# EAGLE library part MR2A16A (library Freescale-MRAM)
Freescale 4Mbit MRAM
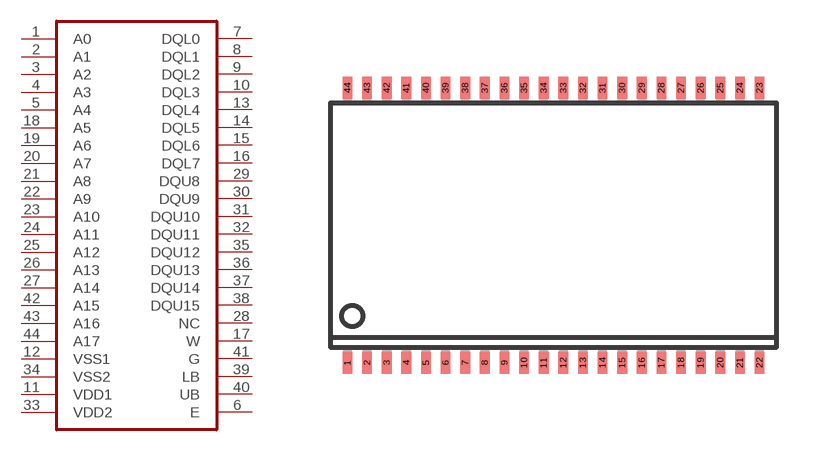
[diagram p1: symbol with the pads of TSOP44-II; footprint TSOP44-II]

Designator prefix -

## MR2A16A  [TSOP44-II]
1  A0
2  A1
3  A2
4  A3
5  A4
6  E
7  DQL0
8  DQL1
9  DQL2
10  DQL3
11  VDD1  pwr
12  VSS1  pwr
13  DQL4
14  DQL5
15  DQL6
16  DQL7
17  W
18  A5
19  A6
20  A7
21  A8
22  A9
23  A10
24  A11
25  A12
26  A13
27  A14
28  NC  nc
29  DQU8
30  DQU9
31  DQU10
32  DQU11
33  VDD2  pwr
34  VSS2  pwr
35  DQU12
36  DQU13
37  DQU14
38  DQU15
39  LB
40  UB
41  G
42  A15
43  A16
44  A17

## Footprint TSOP44-II (pad centres in mm)
44 lead Plastic Thin Small Outline Type II
smd 0.4 x 0.9: 1 -8.4,-5.6; 2 -7.6,-5.6; 3 -6.8,-5.6; 4 -6,-5.6; 5 -5.2,-5.6; 6 -4.4,-5.6; 7 -3.6,-5.6; 8 -2.8,-5.6; 9 -2,-5.6; 10 -1.2,-5.6; 11 -0.4,-5.6; 12 0.4,-5.6; 13 1.2,-5.6; 14 2,-5.6; 15 2.8,-5.6; 16 3.6,-5.6; 17 4.4,-5.6; 18 5.2,-5.6; 19 6,-5.6; 20 6.8,-5.6; 21 7.6,-5.6; 22 8.4,-5.6; 23 8.4,5.6; 24 7.6,5.6; 25 6.8,5.6; 26 6,5.6; 27 5.2,5.6; 28 4.4,5.6; 29 3.6,5.6; 30 2.8,5.6; 31 2,5.6; 32 1.2,5.6; 33 0.4,5.6; 34 -0.4,5.6; 35 -1.2,5.6; 36 -2,5.6; 37 -2.8,5.6; 38 -3.6,5.6; 39 -4.4,5.6; 40 -5.2,5.6; 41 -6,5.6; 42 -6.8,5.6; 43 -7.6,5.6; 44 -8.4,5.6